# EAGLE library part M20-9951045 (library KVB-connectors)
20 Positions Header Cuttable Connector 0.100" (2.54mm) Through Hole, Right Angle Gold
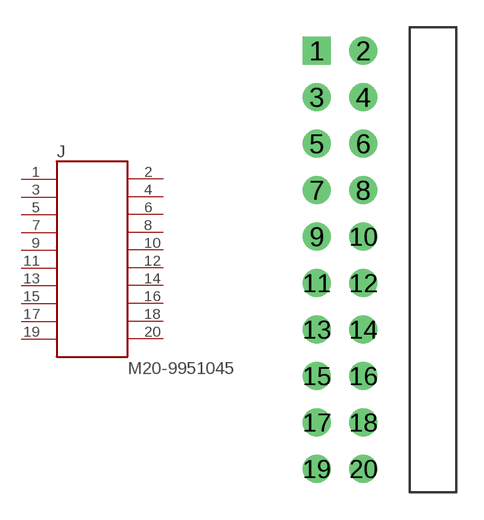
[diagram p21: symbol with the pads of M20-9951045; footprint M20-9951045]

Designator prefix J

## M20-9951045  [M20-9951045]
1  P$1
2  P$2
3  P$3
4  P$4
5  P$5
6  P$6
7  P$7
8  P$8
9  P$9
10  P$10
11  P$11
12  P$12
13  P$13
14  P$14
15  P$15
16  P$16
17  P$17
18  P$18
19  P$19
20  P$20

## Footprint M20-9951045 (pad centres in mm)
drill 1.016 square: 1 -1.27,0
drill 1.016: 2 1.27,0; 3 -1.27,-2.54; 4 1.27,-2.54; 5 -1.27,-5.08; 6 1.27,-5.08; 7 -1.27,-7.62; 8 1.27,-7.62; 9 -1.27,-10.16; 10 1.27,-10.16; 11 -1.27,-12.7; 12 1.27,-12.7; 13 -1.27,-15.24; 14 1.27,-15.24; 15 -1.27,-17.78; 16 1.27,-17.78; 17 -1.27,-20.32; 18 1.27,-20.32; 19 -1.27,-22.86; 20 1.27,-22.86